# Altium schematic symbol library Capacitor - Aluminium.SchLib: 294 symbols (part 1 of 5)
Pins are listed as number, name and electrical type; pins without a type are passive.

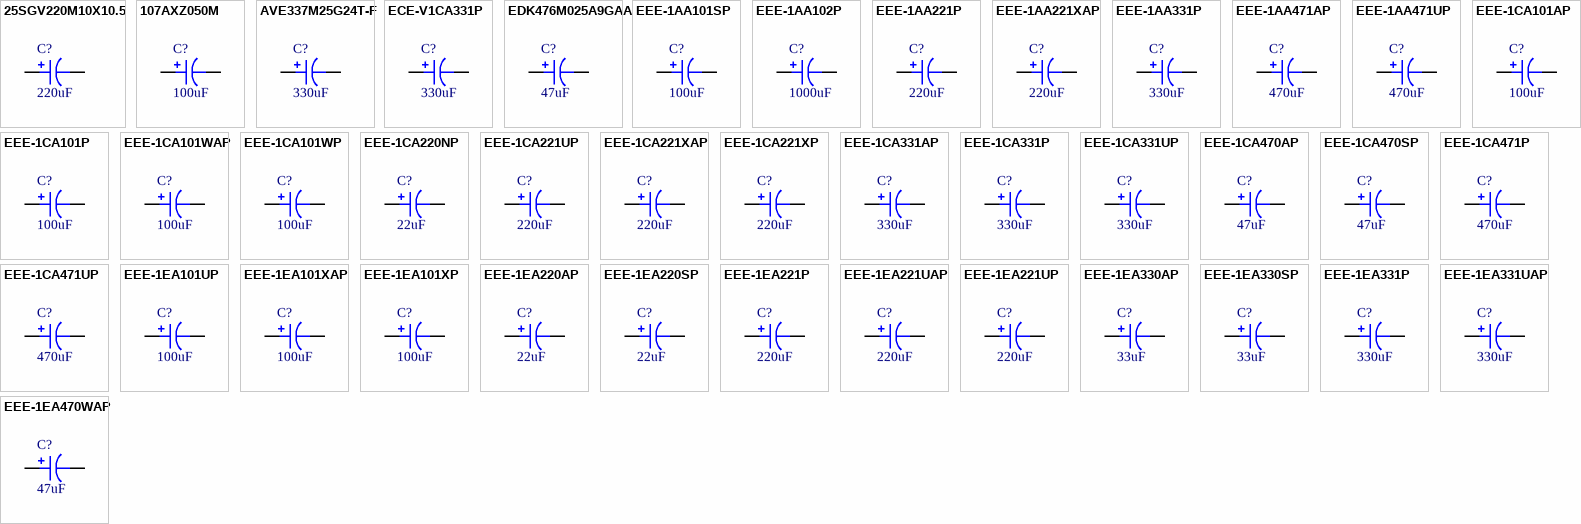
[diagram p0: symbols 25SGV220M10X10.5 to EEE-1EA470WAP]

## 25SGV220M10X10.5
designator C?, comment 220uF
CAP ALUM 220UF 20% 25V SMD; Part Number: 25SGV220M10X10.5; Manufacturer: Rubycon; TemperatureRange: -55C ~ 105C; Type: General Purpose; Ripple Current: 355mA; Lifetime @ Temp: 2000 Hrs @ 105C; Value: 220uF; PartId: 7445; Supplier 1: Digi-Key; Supplier Part Number 1: 1189-2434-2-ND; ComponentLink1Description: Datasheet; ComponentLink1URL: http://www.rubycon.co.jp/en/catalog/e_pdfs/aluminum/e_SGV.pdf; ComponentLink2Description: Digi-Key listing; ComponentLink2URL: http://digikey.com/product-detail/en/25SGV220M10X10.5/1189-2434-2-ND/3568775; Tolerance: 20%; Voltage: 25V; Price: 0.4518; Device Package: Radial, Can - SMD; Impedance: -
footprint CAP ALUM 10.3MM
pins: 1, 2

## 107AXZ050M
designator C?, comment 100uF
SMD E-CAP LOW Z; Part Number: 107AXZ050M; Manufacturer: Illinois Capacitor; TemperatureRange: -55C ~ 105C; Tolerance: 20%; Voltage: 50V; Type: General Purpose; Ripple Current: 300mA; Lifetime @ Temp: 2000 Hrs @ 105C; Value: 100uF; PartId: 7379; Supplier 1: Digi-Key; Supplier Part Number 1: 1572-1038-2-ND; ComponentLink1Description: Datasheet; ComponentLink1URL: http://www.illinoiscapacitor.com/pdf/seriesDocuments/AXZ%20series.pdf; ComponentLink2Description: Digi-Key listing; ComponentLink2URL: http://digikey.com/product-detail/en/107AXZ050M/1572-1038-2-ND/5642283; Price: 0.5215; Device Package: Radial, Can - SMD; Impedance: -
footprint CAP ALUM 8.3MM
pins: 1, 2

## AVE337M25G24T-F
designator C?, comment 330uF
CAP ALUM 330UF 20% 25V SMD; Part Number: AVE337M25G24T-F; Manufacturer: Cornell Dubilier Electronics (CDE); TemperatureRange: -40C ~ 85C; Type: General Purpose; Ripple Current: 458mA; Lifetime @ Temp: 2000 Hrs @ 85C; Value: 330uF; PartId: 7428; Supplier 1: Digi-Key; Supplier Part Number 1: 338-1808-2-ND; ComponentLink1Description: Datasheet; ComponentLink1URL: http://www.cde.com/resources/catalogs/AVE.pdf; ComponentLink2Description: Digi-Key listing; ComponentLink2URL: http://digikey.com/product-detail/en/AVE337M25G24T-F/338-1808-2-ND/2096276; Tolerance: 20%; Voltage: 25V; Price: 0.3706; Device Package: Radial, Can - SMD; Impedance: -
footprint CAP ALUM 10.3MM
pins: 1, 2

## ECE-V1CA331P
designator C?, comment 330uF
CAP ALUM 330UF 20% 16V SMD; Part Number: ECE-V1CA331P; Manufacturer: Panasonic Electronic Components; TemperatureRange: -40C ~ 85C; Type: General Purpose; Ripple Current: 380mA; Lifetime @ Temp: 2000 Hrs @ 85C; Value: 330uF; PartId: 7395; Supplier 1: Digi-Key; Supplier Part Number 1: PCE2045TR-ND; ComponentLink1Description: Datasheet; ComponentLink1URL: http://www.panasonic.com/industrial/components/pdf/PIC_VS_SERIES.pdf; ComponentLink2Description: Digi-Key listing; ComponentLink2URL: http://digikey.com/product-detail/en/ECE-V1CA331P/PCE2045TR-ND/204194; Tolerance: 20%; Voltage: 16V; Price: 0.3055; Device Package: Radial, Can - SMD; Impedance: -
footprint CAP ALUM 10.3MM
pins: 1, 2

## EDK476M025A9GAA
designator C?, comment 47uF
CAP ALUM 47UF 20% 25V SMD; Part Number: EDK476M025A9GAA; Manufacturer: Kemet; TemperatureRange: -40C ~ 85C; Type: General Purpose; Ripple Current: 70mA; Lifetime @ Temp: 2000 Hrs @ 85C; Value: 47uF; PartId: 7204; Supplier 1: Digi-Key; Supplier Part Number 1: 399-6051-2-ND; ComponentLink1Description: Datasheet; ComponentLink1URL: http://capacitoredge.kemet.com/capedge2/DataSheet?pn=EDK476M025A9GAA; ComponentLink2Description: Digi-Key listing; ComponentLink2URL: http://digikey.com/product-detail/en/EDK476M025A9GAA/399-6051-2-ND/2712593; Tolerance: 20%; Voltage: 25V; Price: 0.119; Device Package: Radial, Can - SMD; Impedance: -
footprint CAP ALUM 6.6MM
pins: 1, 2

## EEE-1AA101SP
designator C?, comment 100uF
CAP ALUM 100UF 20% 10V SMD; Part Number: EEE-1AA101SP; Manufacturer: Panasonic Electronic Components; TemperatureRange: -40C ~ 85C; Type: Automotive; Ripple Current: 70mA; Lifetime @ Temp: 2000 Hrs @ 85C; Value: 100uF; PartId: 7209; Supplier 1: Digi-Key; Supplier Part Number 1: PCE3866TR-ND; ComponentLink1Description: Datasheet; ComponentLink1URL: http://media.digikey.com/pdf/Data%20Sheets/Panasonic%20Electronic%20Components/S_Series_Type_V.pdf; ComponentLink2Description: Digi-Key listing; ComponentLink2URL: http://digikey.com/product-detail/en/EEE-1AA101SP/PCE3866TR-ND/766033; Tolerance: 20%; Voltage: 10V; Price: 0.1202; Device Package: Radial, Can - SMD; Impedance: -
footprint CAP ALUM 6.6MM
pins: 1, 2

## EEE-1AA102P
designator C?, comment 1000uF
CAP ALUM 1000UF 20% 10V SMD; Part Number: EEE-1AA102P; Manufacturer: Panasonic Electronic Components; TemperatureRange: -40C ~ 85C; Type: Automotive; Ripple Current: 580mA; Lifetime @ Temp: 2000 Hrs @ 85C; Value: 1000uF; PartId: 7397; Supplier 1: Digi-Key; Supplier Part Number 1: PCE3868TR-ND; ComponentLink1Description: Datasheet; ComponentLink1URL: http://media.digikey.com/pdf/Data%20Sheets/Panasonic%20Electronic%20Components/S_Series_Type_V.pdf; ComponentLink2Description: Digi-Key listing; ComponentLink2URL: http://digikey.com/product-detail/en/EEE-1AA102P/PCE3868TR-ND/766035; Tolerance: 20%; Voltage: 10V; Price: 0.3144; Device Package: Radial, Can - SMD; Impedance: -
footprint CAP ALUM 10.3MM
pins: 1, 2

## EEE-1AA221P
designator C?, comment 220uF
CAP ALUM 220UF 20% 10V SMD; Part Number: EEE-1AA221P; Manufacturer: Panasonic Electronic Components; TemperatureRange: -40C ~ 85C; Type: Automotive; Ripple Current: 250mA; Lifetime @ Temp: 2000 Hrs @ 85C; Value: 220uF; PartId: 7311; Supplier 1: Digi-Key; Supplier Part Number 1: PCE3870TR-ND; ComponentLink1Description: Datasheet; ComponentLink1URL: http://media.digikey.com/pdf/Data%20Sheets/Panasonic%20Electronic%20Components/S_Series_Type_V.pdf; ComponentLink2Description: Digi-Key listing; ComponentLink2URL: http://digikey.com/product-detail/en/EEE-1AA221P/PCE3870TR-ND/766037; Tolerance: 20%; Voltage: 10V; Price: 0.1761; Device Package: Radial, Can - SMD; Impedance: -
footprint CAP ALUM 8.3MM
pins: 1, 2

## EEE-1AA221XAP
designator C?, comment 220uF
CAP ALUM 220UF 20% 10V SMD; Part Number: EEE-1AA221XAP; Manufacturer: Panasonic Electronic Components; TemperatureRange: -40C ~ 85C; Type: High Temperature Reflow; Ripple Current: 173mA; Lifetime @ Temp: 2000 Hrs @ 85C; Value: 220uF; PartId: 7254; Supplier 1: Digi-Key; Supplier Part Number 1: PCE4570TR-ND; ComponentLink1Description: Datasheet; ComponentLink1URL: http://media.digikey.com/pdf/Data%20Sheets/Panasonic%20Electronic%20Components/S_Series_Type_V.pdf; ComponentLink2Description: Digi-Key listing; ComponentLink2URL: http://digikey.com/product-detail/en/EEE-1AA221XAP/PCE4570TR-ND/1717736; Tolerance: 20%; Voltage: 10V; Price: 0.1968; Device Package: Radial, Can - SMD; Impedance: -
footprint CAP ALUM 6.6MM
pins: 1, 2

## EEE-1AA331P
designator C?, comment 330uF
CAP ALUM 330UF 20% 10V SMD; Part Number: EEE-1AA331P; Manufacturer: Panasonic Electronic Components; TemperatureRange: -40C ~ 85C; Type: Automotive; Ripple Current: 390mA; Lifetime @ Temp: 2000 Hrs @ 85C; Value: 330uF; PartId: 7341; Supplier 1: Digi-Key; Supplier Part Number 1: PCE3874TR-ND; ComponentLink1Description: Datasheet; ComponentLink1URL: http://media.digikey.com/pdf/Data%20Sheets/Panasonic%20Electronic%20Components/S_Series_Type_V.pdf; ComponentLink2Description: Digi-Key listing; ComponentLink2URL: http://digikey.com/product-detail/en/EEE-1AA331P/PCE3874TR-ND/766041; Tolerance: 20%; Voltage: 10V; Price: 0.2736; Device Package: Radial, Can - SMD; Impedance: -
footprint CAP ALUM 8.3MM
pins: 1, 2

## EEE-1AA471AP
designator C?, comment 470uF
CAP ALUM 470UF 20% 10V SMD; Part Number: EEE-1AA471AP; Manufacturer: Panasonic Electronic Components; TemperatureRange: -40C ~ 85C; Type: High Temperature Reflow; Ripple Current: 400mA; Lifetime @ Temp: 2000 Hrs @ 85C; Value: 470uF; PartId: 7425; Supplier 1: Digi-Key; Supplier Part Number 1: PCE4575TR-ND; ComponentLink1Description: Datasheet; ComponentLink1URL: http://media.digikey.com/pdf/Data%20Sheets/Panasonic%20Electronic%20Components/S_Series_Type_V.pdf; ComponentLink2Description: Digi-Key listing; ComponentLink2URL: http://digikey.com/product-detail/en/EEE-1AA471AP/PCE4575TR-ND/1717741; Tolerance: 20%; Voltage: 10V; Price: 0.3646; Device Package: Radial, Can - SMD; Impedance: -
footprint CAP ALUM 10.3MM
pins: 1, 2

## EEE-1AA471UP
designator C?, comment 470uF
CAP ALUM 470UF 20% 10V SMD; Part Number: EEE-1AA471UP; Manufacturer: Panasonic Electronic Components; TemperatureRange: -40C ~ 85C; Type: Automotive; Ripple Current: 390mA; Lifetime @ Temp: 2000 Hrs @ 85C; Value: 470uF; PartId: 7337; Supplier 1: Digi-Key; Supplier Part Number 1: PCE3877TR-ND; ComponentLink1Description: Datasheet; ComponentLink1URL: http://media.digikey.com/pdf/Data%20Sheets/Panasonic%20Electronic%20Components/S_Series_Type_V.pdf; ComponentLink2Description: Digi-Key listing; ComponentLink2URL: http://digikey.com/product-detail/en/EEE-1AA471UP/PCE3877TR-ND/766044; Tolerance: 20%; Voltage: 10V; Price: 0.2682; Device Package: Radial, Can - SMD; Impedance: -
footprint CAP ALUM 8.3MM
pins: 1, 2

## EEE-1CA101AP
designator C?, comment 100uF
CAP ALUM 100UF 20% 16V SMD; Part Number: EEE-1CA101AP; Manufacturer: Panasonic Electronic Components; TemperatureRange: -40C ~ 85C; Type: High Temperature Reflow; Ripple Current: 200mA; Lifetime @ Temp: 2000 Hrs @ 85C; Value: 100uF; PartId: 7320; Supplier 1: Digi-Key; Supplier Part Number 1: PCE4578TR-ND; ComponentLink1Description: Datasheet; ComponentLink1URL: http://media.digikey.com/pdf/Data%20Sheets/Panasonic%20Electronic%20Components/S_Series_Type_V.pdf; ComponentLink2Description: Digi-Key listing; ComponentLink2URL: http://digikey.com/product-detail/en/EEE-1CA101AP/PCE4578TR-ND/1717744; Tolerance: 20%; Voltage: 16V; Price: 0.2002; Device Package: Radial, Can - SMD; Impedance: -
footprint CAP ALUM 8.3MM
pins: 1, 2

## EEE-1CA101P
designator C?, comment 100uF
CAP ALUM 100UF 20% 16V SMD; Part Number: EEE-1CA101P; Manufacturer: Panasonic Electronic Components; TemperatureRange: -40C ~ 85C; Type: Automotive; Ripple Current: 200mA; Lifetime @ Temp: 2000 Hrs @ 85C; Value: 100uF; PartId: 7310; Supplier 1: Digi-Key; Supplier Part Number 1: PCE3879TR-ND; ComponentLink1Description: Datasheet; ComponentLink1URL: http://media.digikey.com/pdf/Data%20Sheets/Panasonic%20Electronic%20Components/S_Series_Type_V.pdf; ComponentLink2Description: Digi-Key listing; ComponentLink2URL: http://digikey.com/product-detail/en/EEE-1CA101P/PCE3879TR-ND/766046; Tolerance: 20%; Voltage: 16V; Price: 0.1761; Device Package: Radial, Can - SMD; Impedance: -
footprint CAP ALUM 8.3MM
pins: 1, 2

## EEE-1CA101WAP
designator C?, comment 100uF
CAP ALUM 100UF 20% 16V SMD; Part Number: EEE-1CA101WAP; Manufacturer: Panasonic Electronic Components; TemperatureRange: -40C ~ 85C; Type: High Temperature Reflow; Ripple Current: 70mA; Lifetime @ Temp: 1000 Hrs @ 85C; Value: 100uF; PartId: 7232; Supplier 1: Digi-Key; Supplier Part Number 1: PCE4579TR-ND; ComponentLink1Description: Datasheet; ComponentLink1URL: http://media.digikey.com/pdf/Data%20Sheets/Panasonic%20Electronic%20Components/S_Series_Type_V.pdf; ComponentLink2Description: Digi-Key listing; ComponentLink2URL: http://digikey.com/product-detail/en/EEE-1CA101WAP/PCE4579TR-ND/1717745; Tolerance: 20%; Voltage: 16V; Price: 0.1613; Device Package: Radial, Can - SMD; Impedance: -
footprint CAP ALUM 6.6MM
pins: 1, 2

## EEE-1CA101WP
designator C?, comment 100uF
CAP ALUM 100UF 20% 16V SMD; Part Number: EEE-1CA101WP; Manufacturer: Panasonic Electronic Components; TemperatureRange: -40C ~ 85C; Type: Automotive; Ripple Current: 70mA; Lifetime @ Temp: 1000 Hrs @ 85C; Value: 100uF; PartId: 7203; Supplier 1: Digi-Key; Supplier Part Number 1: PCE3880TR-ND; ComponentLink1Description: Datasheet; ComponentLink1URL: http://media.digikey.com/pdf/Data%20Sheets/Panasonic%20Electronic%20Components/S_Series_Type_V.pdf; ComponentLink2Description: Digi-Key listing; ComponentLink2URL: http://digikey.com/product-detail/en/EEE-1CA101WP/PCE3880TR-ND/766047; Tolerance: 20%; Voltage: 16V; Price: 0.1188; Device Package: Radial, Can - SMD; Impedance: -
footprint CAP ALUM 6.6MM
pins: 1, 2

## EEE-1CA220NP
designator C?, comment 22uF
CAP ALUM 22UF 20% 16V SMD; Part Number: EEE-1CA220NP; Manufacturer: Panasonic Electronic Components; TemperatureRange: -40C ~ 85C; Type: Automotive; Ripple Current: 39mA; Lifetime @ Temp: 2000 Hrs @ 85C; Value: 22uF; PartId: 7252; Supplier 1: Digi-Key; Supplier Part Number 1: PCE4306TR-ND; ComponentLink1Description: Datasheet; ComponentLink1URL: http://media.digikey.com/pdf/Data%20Sheets/Panasonic%20Electronic%20Components/S_Series_Type_V.pdf; ComponentLink2Description: Digi-Key listing; ComponentLink2URL: http://digikey.com/product-detail/en/EEE-1CA220NP/PCE4306TR-ND/863578; Tolerance: 20%; Voltage: 16V; Price: 0.185; Device Package: Radial, Can - SMD; Impedance: -
footprint CAP ALUM 6.6MM
pins: 1, 2

## EEE-1CA221UP
designator C?, comment 220uF
CAP ALUM 220UF 20% 16V SMD; Part Number: EEE-1CA221UP; Manufacturer: Panasonic Electronic Components; TemperatureRange: -40C ~ 85C; Type: Automotive; Lifetime @ Temp: 2000 Hrs @ 85C; Value: 220uF; PartId: 7312; Supplier 1: Digi-Key; Supplier Part Number 1: PCE3884TR-ND; ComponentLink1Description: Datasheet; ComponentLink1URL: http://media.digikey.com/pdf/Data%20Sheets/Panasonic%20Electronic%20Components/S_Series_Type_V.pdf; ComponentLink2Description: Digi-Key listing; ComponentLink2URL: http://digikey.com/product-detail/en/EEE-1CA221UP/PCE3884TR-ND/766051; Tolerance: 20%; Voltage: 16V; Price: 0.1761; Device Package: Radial, Can - SMD; Ripple Current: -; Impedance: -
footprint CAP ALUM 8.3MM
pins: 1, 2

## EEE-1CA221XAP
designator C?, comment 220uF
CAP ALUM 220UF 20% 16V SMD; Part Number: EEE-1CA221XAP; Manufacturer: Panasonic Electronic Components; TemperatureRange: -40C ~ 85C; Type: High Temperature Reflow; Ripple Current: 162mA; Lifetime @ Temp: 2000 Hrs @ 85C; Value: 220uF; PartId: 7253; Supplier 1: Digi-Key; Supplier Part Number 1: PCE4583TR-ND; ComponentLink1Description: Datasheet; ComponentLink1URL: http://media.digikey.com/pdf/Data%20Sheets/Panasonic%20Electronic%20Components/S_Series_Type_V.pdf; ComponentLink2Description: Digi-Key listing; ComponentLink2URL: http://digikey.com/product-detail/en/EEE-1CA221XAP/PCE4583TR-ND/1717749; Tolerance: 20%; Voltage: 16V; Price: 0.1968; Device Package: Radial, Can - SMD; Impedance: -
footprint CAP ALUM 6.6MM
pins: 1, 2

## EEE-1CA221XP
designator C?, comment 220uF
CAP ALUM 220UF 20% 16V SMD; Part Number: EEE-1CA221XP; Manufacturer: Panasonic Electronic Components; TemperatureRange: -40C ~ 85C; Type: Automotive; Ripple Current: 162mA; Lifetime @ Temp: 2000 Hrs @ 85C; Value: 220uF; PartId: 7248; Supplier 1: Digi-Key; Supplier Part Number 1: PCE3885TR-ND; ComponentLink1Description: Datasheet; ComponentLink1URL: http://media.digikey.com/pdf/Data%20Sheets/Panasonic%20Electronic%20Components/S_Series_Type_V.pdf; ComponentLink2Description: Digi-Key listing; ComponentLink2URL: http://digikey.com/product-detail/en/EEE-1CA221XP/PCE3885TR-ND/766052; Tolerance: 20%; Voltage: 16V; Price: 0.1758; Device Package: Radial, Can - SMD; Impedance: -
footprint CAP ALUM 6.6MM
pins: 1, 2

## EEE-1CA331AP
designator C?, comment 330uF
CAP ALUM 330UF 20% 16V SMD; Part Number: EEE-1CA331AP; Manufacturer: Panasonic Electronic Components; TemperatureRange: -40C ~ 85C; Type: High Temperature Reflow; Ripple Current: 380mA; Lifetime @ Temp: 2000 Hrs @ 85C; Value: 330uF; PartId: 7421; Supplier 1: Digi-Key; Supplier Part Number 1: PCE4585TR-ND; ComponentLink1Description: Datasheet; ComponentLink1URL: http://media.digikey.com/pdf/Data%20Sheets/Panasonic%20Electronic%20Components/S_Series_Type_V.pdf; ComponentLink2Description: Digi-Key listing; ComponentLink2URL: http://digikey.com/product-detail/en/EEE-1CA331AP/PCE4585TR-ND/1717751; Tolerance: 20%; Voltage: 16V; Price: 0.3574; Device Package: Radial, Can - SMD; Impedance: -
footprint CAP ALUM 10.3MM
pins: 1, 2

## EEE-1CA331P
designator C?, comment 330uF
CAP ALUM 330UF 20% 16V SMD; Part Number: EEE-1CA331P; Manufacturer: Panasonic Electronic Components; TemperatureRange: -40C ~ 85C; Type: Automotive; Ripple Current: 380mA; Lifetime @ Temp: 2000 Hrs @ 85C; Value: 330uF; PartId: 7404; Supplier 1: Digi-Key; Supplier Part Number 1: PCE3887TR-ND; ComponentLink1Description: Datasheet; ComponentLink1URL: http://media.digikey.com/pdf/Data%20Sheets/Panasonic%20Electronic%20Components/S_Series_Type_V.pdf; ComponentLink2Description: Digi-Key listing; ComponentLink2URL: http://digikey.com/product-detail/en/EEE-1CA331P/PCE3887TR-ND/766054; Tolerance: 20%; Voltage: 16V; Price: 0.3207; Device Package: Radial, Can - SMD; Impedance: -
footprint CAP ALUM 10.3MM
pins: 1, 2

## EEE-1CA331UP
designator C?, comment 330uF
CAP ALUM 330UF 20% 16V SMD; Part Number: EEE-1CA331UP; Manufacturer: Panasonic Electronic Components; TemperatureRange: -40C ~ 85C; Type: Automotive; Ripple Current: 320mA; Lifetime @ Temp: 2000 Hrs @ 85C; Value: 330uF; PartId: 7338; Supplier 1: Digi-Key; Supplier Part Number 1: PCE3888TR-ND; ComponentLink1Description: Datasheet; ComponentLink1URL: http://media.digikey.com/pdf/Data%20Sheets/Panasonic%20Electronic%20Components/S_Series_Type_V.pdf; ComponentLink2Description: Digi-Key listing; ComponentLink2URL: http://digikey.com/product-detail/en/EEE-1CA331UP/PCE3888TR-ND/766055; Tolerance: 20%; Voltage: 16V; Price: 0.2682; Device Package: Radial, Can - SMD; Impedance: -
footprint CAP ALUM 8.3MM
pins: 1, 2

## EEE-1CA470AP
designator C?, comment 47uF
CAP ALUM 47UF 20% 16V SMD; Part Number: EEE-1CA470AP; Manufacturer: Panasonic Electronic Components; TemperatureRange: -40C ~ 85C; Type: High Temperature Reflow; Ripple Current: 70mA; Lifetime @ Temp: 2000 Hrs @ 85C; Value: 47uF; PartId: 7217; Supplier 1: Digi-Key; Supplier Part Number 1: PCE4587TR-ND; ComponentLink1Description: Datasheet; ComponentLink1URL: http://media.digikey.com/pdf/Data%20Sheets/Panasonic%20Electronic%20Components/S_Series_Type_V.pdf; ComponentLink2Description: Digi-Key listing; ComponentLink2URL: http://digikey.com/product-detail/en/EEE-1CA470AP/PCE4587TR-ND/1717753; Tolerance: 20%; Voltage: 16V; Price: 0.1368; Device Package: Radial, Can - SMD; Impedance: -
footprint CAP ALUM 6.6MM
pins: 1, 2

## EEE-1CA470SP
designator C?, comment 47uF
CAP ALUM 47UF 20% 16V SMD; Part Number: EEE-1CA470SP; Manufacturer: Panasonic Electronic Components; TemperatureRange: -40C ~ 85C; Type: Automotive; Ripple Current: 70mA; Lifetime @ Temp: 2000 Hrs @ 85C; Value: 47uF; PartId: 7199; Supplier 1: Digi-Key; Supplier Part Number 1: PCE3889TR-ND; ComponentLink1Description: Datasheet; ComponentLink1URL: http://media.digikey.com/pdf/Data%20Sheets/Panasonic%20Electronic%20Components/S_Series_Type_V.pdf; ComponentLink2Description: Digi-Key listing; ComponentLink2URL: http://digikey.com/product-detail/en/EEE-1CA470SP/PCE3889TR-ND/766056; Tolerance: 20%; Voltage: 16V; Price: 0.1112; Device Package: Radial, Can - SMD; Impedance: -
footprint CAP ALUM 6.6MM
pins: 1, 2

## EEE-1CA471P
designator C?, comment 470uF
CAP ALUM 470UF 20% 16V SMD; Part Number: EEE-1CA471P; Manufacturer: Panasonic Electronic Components; TemperatureRange: -40C ~ 85C; Type: Automotive; Ripple Current: 420mA; Lifetime @ Temp: 2000 Hrs @ 85C; Value: 470uF; PartId: 7399; Supplier 1: Digi-Key; Supplier Part Number 1: PCE3891TR-ND; ComponentLink1Description: Datasheet; ComponentLink1URL: http://media.digikey.com/pdf/Data%20Sheets/Panasonic%20Electronic%20Components/S_Series_Type_V.pdf; ComponentLink2Description: Digi-Key listing; ComponentLink2URL: http://digikey.com/product-detail/en/EEE-1CA471P/PCE3891TR-ND/766058; Tolerance: 20%; Voltage: 16V; Price: 0.3144; Device Package: Radial, Can - SMD; Impedance: -
footprint CAP ALUM 10.3MM
pins: 1, 2

## EEE-1CA471UP
designator C?, comment 470uF
CAP ALUM 470UF 20% 16V SMD; Part Number: EEE-1CA471UP; Manufacturer: Panasonic Electronic Components; TemperatureRange: -40C ~ 85C; Type: Automotive; Ripple Current: 350mA; Lifetime @ Temp: 2000 Hrs @ 85C; Value: 470uF; PartId: 7344; Supplier 1: Digi-Key; Supplier Part Number 1: PCE3892TR-ND; ComponentLink1Description: Datasheet; ComponentLink1URL: http://media.digikey.com/pdf/Data%20Sheets/Panasonic%20Electronic%20Components/S_Series_Type_V.pdf; ComponentLink2Description: Digi-Key listing; ComponentLink2URL: http://digikey.com/product-detail/en/EEE-1CA471UP/PCE3892TR-ND/766059; Tolerance: 20%; Voltage: 16V; Price: 0.2912; Device Package: Radial, Can - SMD; Impedance: -
footprint CAP ALUM 8.3MM
pins: 1, 2

## EEE-1EA101UP
designator C?, comment 100uF
CAP ALUM 100UF 20% 25V SMD; Part Number: EEE-1EA101UP; Manufacturer: Panasonic Electronic Components; TemperatureRange: -40C ~ 85C; Type: Automotive; Ripple Current: 91mA; Lifetime @ Temp: 2000 Hrs @ 85C; Value: 100uF; PartId: 7309; Supplier 1: Digi-Key; Supplier Part Number 1: PCE3897TR-ND; ComponentLink1Description: Datasheet; ComponentLink1URL: http://media.digikey.com/pdf/Data%20Sheets/Panasonic%20Electronic%20Components/S_Series_Type_V.pdf; ComponentLink2Description: Digi-Key listing; ComponentLink2URL: http://digikey.com/product-detail/en/EEE-1EA101UP/PCE3897TR-ND/766064; Tolerance: 20%; Voltage: 25V; Price: 0.1761; Device Package: Radial, Can - SMD; Impedance: -
footprint CAP ALUM 8.3MM
pins: 1, 2

## EEE-1EA101XAP
designator C?, comment 100uF
CAP ALUM 100UF 20% 25V SMD; Part Number: EEE-1EA101XAP; Manufacturer: Panasonic Electronic Components; TemperatureRange: -40C ~ 85C; Type: High Temperature Reflow; Ripple Current: 143mA; Lifetime @ Temp: 2000 Hrs @ 85C; Value: 100uF; PartId: 7260; Supplier 1: Digi-Key; Supplier Part Number 1: PCE4595TR-ND; ComponentLink1Description: Datasheet; ComponentLink1URL: http://media.digikey.com/pdf/Data%20Sheets/Panasonic%20Electronic%20Components/S_Series_Type_V.pdf; ComponentLink2Description: Digi-Key listing; ComponentLink2URL: http://digikey.com/product-detail/en/EEE-1EA101XAP/PCE4595TR-ND/1717761; Tolerance: 20%; Voltage: 25V; Price: 0.2007; Device Package: Radial, Can - SMD; Impedance: -
footprint CAP ALUM 6.6MM
pins: 1, 2

## EEE-1EA101XP
designator C?, comment 100uF
CAP ALUM 100UF 20% 25V SMD; Part Number: EEE-1EA101XP; Manufacturer: Panasonic Electronic Components; TemperatureRange: -40C ~ 85C; Type: Automotive; Ripple Current: 143mA; Lifetime @ Temp: 2000 Hrs @ 85C; Value: 100uF; PartId: 7246; Supplier 1: Digi-Key; Supplier Part Number 1: PCE3898TR-ND; ComponentLink1Description: Datasheet; ComponentLink1URL: http://media.digikey.com/pdf/Data%20Sheets/Panasonic%20Electronic%20Components/S_Series_Type_V.pdf; ComponentLink2Description: Digi-Key listing; ComponentLink2URL: http://digikey.com/product-detail/en/EEE-1EA101XP/PCE3898TR-ND/766065; Tolerance: 20%; Voltage: 25V; Price: 0.1724; Device Package: Radial, Can - SMD; Impedance: -
footprint CAP ALUM 6.6MM
pins: 1, 2

## EEE-1EA220AP
designator C?, comment 22uF
CAP ALUM 22UF 20% 25V SMD; Part Number: EEE-1EA220AP; Manufacturer: Panasonic Electronic Components; TemperatureRange: -40C ~ 85C; Type: High Temperature Reflow; Ripple Current: 55mA; Lifetime @ Temp: 2000 Hrs @ 85C; Value: 22uF; PartId: 7220; Supplier 1: Digi-Key; Supplier Part Number 1: PCE4596TR-ND; ComponentLink1Description: Datasheet; ComponentLink1URL: http://media.digikey.com/pdf/Data%20Sheets/Panasonic%20Electronic%20Components/S_Series_Type_V.pdf; ComponentLink2Description: Digi-Key listing; ComponentLink2URL: http://digikey.com/product-detail/en/EEE-1EA220AP/PCE4596TR-ND/1717762; Tolerance: 20%; Voltage: 25V; Price: 0.1368; Device Package: Radial, Can - SMD; Impedance: -
footprint CAP ALUM 6.6MM
pins: 1, 2

## EEE-1EA220SP
designator C?, comment 22uF
CAP ALUM 22UF 20% 25V SMD; Part Number: EEE-1EA220SP; Manufacturer: Panasonic Electronic Components; TemperatureRange: -40C ~ 85C; Type: Automotive; Ripple Current: 55mA; Lifetime @ Temp: 2000 Hrs @ 85C; Value: 22uF; PartId: 7208; Supplier 1: Digi-Key; Supplier Part Number 1: PCE3899TR-ND; ComponentLink1Description: Datasheet; ComponentLink1URL: http://media.digikey.com/pdf/Data%20Sheets/Panasonic%20Electronic%20Components/S_Series_Type_V.pdf; ComponentLink2Description: Digi-Key listing; ComponentLink2URL: http://digikey.com/product-detail/en/EEE-1EA220SP/PCE3899TR-ND/766066; Tolerance: 20%; Voltage: 25V; Price: 0.1202; Device Package: Radial, Can - SMD; Impedance: -
footprint CAP ALUM 6.6MM
pins: 1, 2

## EEE-1EA221P
designator C?, comment 220uF
CAP ALUM 220UF 20% 25V SMD; Part Number: EEE-1EA221P; Manufacturer: Panasonic Electronic Components; TemperatureRange: -40C ~ 85C; Type: Automotive; Ripple Current: 310mA; Lifetime @ Temp: 2000 Hrs @ 85C; Value: 220uF; PartId: 7400; Supplier 1: Digi-Key; Supplier Part Number 1: PCE3901TR-ND; ComponentLink1Description: Datasheet; ComponentLink1URL: http://media.digikey.com/pdf/Data%20Sheets/Panasonic%20Electronic%20Components/S_Series_Type_V.pdf; ComponentLink2Description: Digi-Key listing; ComponentLink2URL: http://digikey.com/product-detail/en/EEE-1EA221P/PCE3901TR-ND/766068; Tolerance: 20%; Voltage: 25V; Price: 0.3144; Device Package: Radial, Can - SMD; Impedance: -
footprint CAP ALUM 10.3MM
pins: 1, 2

## EEE-1EA221UAP
designator C?, comment 220uF
CAP ALUM 220UF 20% 25V SMD; Part Number: EEE-1EA221UAP; Manufacturer: Panasonic Electronic Components; TemperatureRange: -40C ~ 85C; Type: High Temperature Reflow; Ripple Current: 230mA; Lifetime @ Temp: 1000 Hrs @ 85C; Value: 220uF; PartId: 7353; Supplier 1: Digi-Key; Supplier Part Number 1: PCE4599TR-ND; ComponentLink1Description: Datasheet; ComponentLink1URL: http://media.digikey.com/pdf/Data%20Sheets/Panasonic%20Electronic%20Components/S_Series_Type_V.pdf; ComponentLink2Description: Digi-Key listing; ComponentLink2URL: http://digikey.com/product-detail/en/EEE-1EA221UAP/PCE4599TR-ND/1717765; Tolerance: 20%; Voltage: 25V; Price: 0.3313; Device Package: Radial, Can - SMD; Impedance: -
footprint CAP ALUM 8.3MM
pins: 1, 2

## EEE-1EA221UP
designator C?, comment 220uF
CAP ALUM 220UF 20% 25V SMD; Part Number: EEE-1EA221UP; Manufacturer: Panasonic Electronic Components; TemperatureRange: -40C ~ 85C; Type: Automotive; Ripple Current: 230mA; Lifetime @ Temp: 2000 Hrs @ 85C; Value: 220uF; PartId: 7345; Supplier 1: Digi-Key; Supplier Part Number 1: PCE3902TR-ND; ComponentLink1Description: Datasheet; ComponentLink1URL: http://media.digikey.com/pdf/Data%20Sheets/Panasonic%20Electronic%20Components/S_Series_Type_V.pdf; ComponentLink2Description: Digi-Key listing; ComponentLink2URL: http://digikey.com/product-detail/en/EEE-1EA221UP/PCE3902TR-ND/766069; Tolerance: 20%; Voltage: 25V; Price: 0.2912; Device Package: Radial, Can - SMD; Impedance: -
footprint CAP ALUM 8.3MM
pins: 1, 2

## EEE-1EA330AP
designator C?, comment 33uF
CAP ALUM 33UF 20% 25V SMD; Part Number: EEE-1EA330AP; Manufacturer: Panasonic Electronic Components; TemperatureRange: -40C ~ 85C; Type: High Temperature Reflow; Ripple Current: 65mA; Lifetime @ Temp: 2000 Hrs @ 85C; Value: 33uF; PartId: 7219; Supplier 1: Digi-Key; Supplier Part Number 1: PCE4600TR-ND; ComponentLink1Description: Datasheet; ComponentLink1URL: http://media.digikey.com/pdf/Data%20Sheets/Panasonic%20Electronic%20Components/S_Series_Type_V.pdf; ComponentLink2Description: Digi-Key listing; ComponentLink2URL: http://digikey.com/product-detail/en/EEE-1EA330AP/PCE4600TR-ND/1717766; Tolerance: 20%; Voltage: 25V; Price: 0.1368; Device Package: Radial, Can - SMD; Impedance: -
footprint CAP ALUM 6.6MM
pins: 1, 2

## EEE-1EA330SP
designator C?, comment 33uF
CAP ALUM 33UF 20% 25V SMD; Part Number: EEE-1EA330SP; Manufacturer: Panasonic Electronic Components; TemperatureRange: -40C ~ 85C; Type: Automotive; Ripple Current: 65mA; Lifetime @ Temp: 2000 Hrs @ 85C; Value: 33uF; PartId: 7210; Supplier 1: Digi-Key; Supplier Part Number 1: PCE3903TR-ND; ComponentLink1Description: Datasheet; ComponentLink1URL: http://media.digikey.com/pdf/Data%20Sheets/Panasonic%20Electronic%20Components/S_Series_Type_V.pdf; ComponentLink2Description: Digi-Key listing; ComponentLink2URL: http://digikey.com/product-detail/en/EEE-1EA330SP/PCE3903TR-ND/766070; Tolerance: 20%; Voltage: 25V; Price: 0.1202; Device Package: Radial, Can - SMD; Impedance: -
footprint CAP ALUM 6.6MM
pins: 1, 2

## EEE-1EA331P
designator C?, comment 330uF
CAP ALUM 330UF 20% 25V SMD; Part Number: EEE-1EA331P; Manufacturer: Panasonic Electronic Components; TemperatureRange: -40C ~ 85C; Type: Automotive; Ripple Current: 340mA; Lifetime @ Temp: 2000 Hrs @ 85C; Value: 330uF; PartId: 7403; Supplier 1: Digi-Key; Supplier Part Number 1: PCE3905TR-ND; ComponentLink1Description: Datasheet; ComponentLink1URL: http://media.digikey.com/pdf/Data%20Sheets/Panasonic%20Electronic%20Components/S_Series_Type_V.pdf; ComponentLink2Description: Digi-Key listing; ComponentLink2URL: http://digikey.com/product-detail/en/EEE-1EA331P/PCE3905TR-ND/766072; Tolerance: 20%; Voltage: 25V; Price: 0.3207; Device Package: Radial, Can - SMD; Impedance: -
footprint CAP ALUM 10.3MM
pins: 1, 2

## EEE-1EA331UAP
designator C?, comment 330uF
CAP ALUM 330UF 20% 25V SMD; Part Number: EEE-1EA331UAP; Manufacturer: Panasonic Electronic Components; TemperatureRange: -40C ~ 85C; Type: High Temperature Reflow; Ripple Current: 270mA; Lifetime @ Temp: 1000 Hrs @ 85C; Value: 330uF; PartId: 7355; Supplier 1: Digi-Key; Supplier Part Number 1: PCE4603TR-ND; ComponentLink1Description: Datasheet; ComponentLink1URL: http://media.digikey.com/pdf/Data%20Sheets/Panasonic%20Electronic%20Components/S_Series_Type_V.pdf; ComponentLink2Description: Digi-Key listing; ComponentLink2URL: http://digikey.com/product-detail/en/EEE-1EA331UAP/PCE4603TR-ND/1717769; Tolerance: 20%; Voltage: 25V; Price: 0.338; Device Package: Radial, Can - SMD; Impedance: -
footprint CAP ALUM 8.3MM
pins: 1, 2

## EEE-1EA470WAP
designator C?, comment 47uF
CAP ALUM 47UF 20% 25V SMD; Part Number: EEE-1EA470WAP; Manufacturer: Panasonic Electronic Components; TemperatureRange: -40C ~ 85C; Type: High Temperature Reflow; Ripple Current: 70mA; Lifetime @ Temp: 1000 Hrs @ 85C; Value: 47uF; PartId: 7235; Supplier 1: Digi-Key; Supplier Part Number 1: PCE4604TR-ND; ComponentLink1Description: Datasheet; ComponentLink1URL: http://media.digikey.com/pdf/Data%20Sheets/Panasonic%20Electronic%20Components/S_Series_Type_V.pdf; ComponentLink2Description: Digi-Key listing; ComponentLink2URL: http://digikey.com/product-detail/en/EEE-1EA470WAP/PCE4604TR-ND/1717770; Tolerance: 20%; Voltage: 25V; Price: 0.1613; Device Package: Radial, Can - SMD; Impedance: -
footprint CAP ALUM 6.6MM
pins: 1, 2

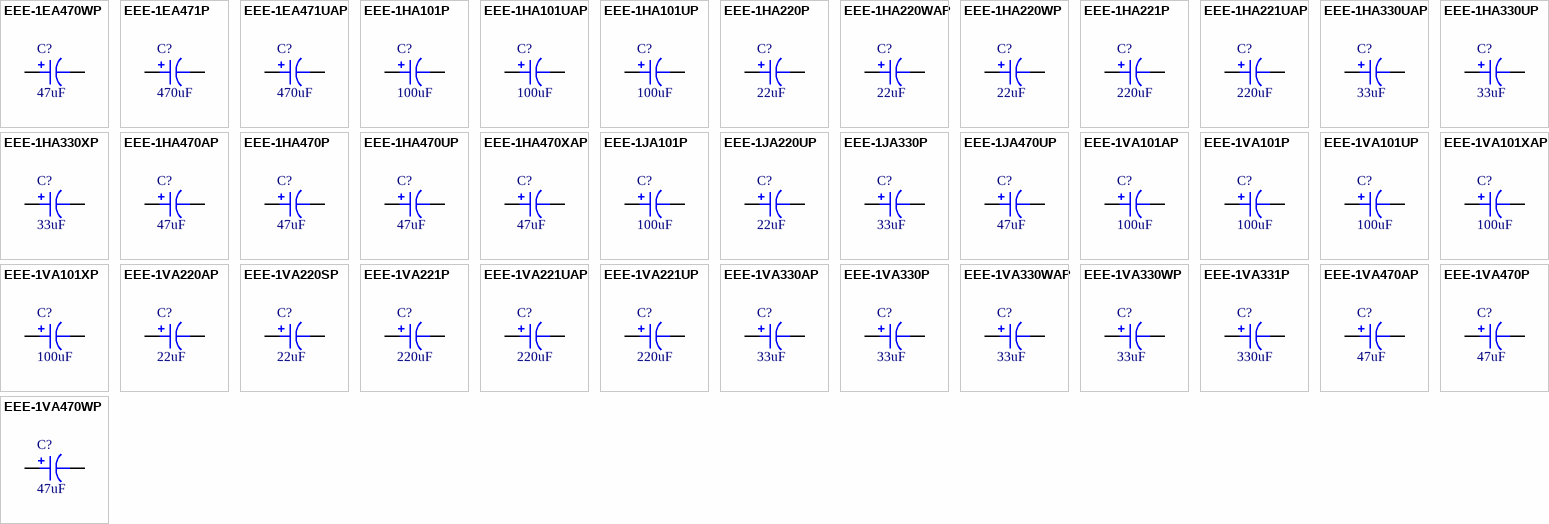
[diagram p1: symbols EEE-1EA470WP to EEE-1VA470WP]

## EEE-1EA470WP
designator C?, comment 47uF
CAP ALUM 47UF 20% 25V SMD; Part Number: EEE-1EA470WP; Manufacturer: Panasonic Electronic Components; TemperatureRange: -40C ~ 85C; Type: Automotive; Ripple Current: 70mA; Lifetime @ Temp: 1000 Hrs @ 85C; Value: 47uF; PartId: 7222; Supplier 1: Digi-Key; Supplier Part Number 1: PCE3908TR-ND; ComponentLink1Description: Datasheet; ComponentLink1URL: http://media.digikey.com/pdf/Data%20Sheets/Panasonic%20Electronic%20Components/S_Series_Type_V.pdf; ComponentLink2Description: Digi-Key listing; ComponentLink2URL: http://digikey.com/product-detail/en/EEE-1EA470WP/PCE3908TR-ND/766075; Tolerance: 20%; Voltage: 25V; Price: 0.1423; Device Package: Radial, Can - SMD; Impedance: -
footprint CAP ALUM 6.6MM
pins: 1, 2

## EEE-1EA471P
designator C?, comment 470uF
CAP ALUM 470UF 20% 25V SMD; Part Number: EEE-1EA471P; Manufacturer: Panasonic Electronic Components; TemperatureRange: -40C ~ 85C; Type: Automotive; Ripple Current: 380mA; Lifetime @ Temp: 2000 Hrs @ 85C; Value: 470uF; PartId: 7417; Supplier 1: Digi-Key; Supplier Part Number 1: PCE3909TR-ND; ComponentLink1Description: Datasheet; ComponentLink1URL: http://media.digikey.com/pdf/Data%20Sheets/Panasonic%20Electronic%20Components/S_Series_Type_V.pdf; ComponentLink2Description: Digi-Key listing; ComponentLink2URL: http://digikey.com/product-detail/en/EEE-1EA471P/PCE3909TR-ND/766076; Tolerance: 20%; Voltage: 25V; Price: 0.3451; Device Package: Radial, Can - SMD; Impedance: -
footprint CAP ALUM 10.3MM
pins: 1, 2

## EEE-1EA471UAP
designator C?, comment 470uF
CAP ALUM 470UF 20% 25V SMD; Part Number: EEE-1EA471UAP; Manufacturer: Panasonic Electronic Components; TemperatureRange: -40C ~ 85C; Type: High Temperature Reflow; Ripple Current: 380mA; Lifetime @ Temp: 1000 Hrs @ 85C; Value: 470uF; PartId: 7429; Supplier 1: Digi-Key; Supplier Part Number 1: PCE4605TR-ND; ComponentLink1Description: Datasheet; ComponentLink1URL: http://media.digikey.com/pdf/Data%20Sheets/Panasonic%20Electronic%20Components/S_Series_Type_V.pdf; ComponentLink2Description: Digi-Key listing; ComponentLink2URL: http://digikey.com/product-detail/en/EEE-1EA471UAP/PCE4605TR-ND/1717771; Tolerance: 20%; Voltage: 25V; Price: 0.3725; Device Package: Radial, Can - SMD; Impedance: -
footprint CAP ALUM 10.3MM
pins: 1, 2

## EEE-1HA101P
designator C?, comment 100uF
CAP ALUM 100UF 20% 50V SMD; Part Number: EEE-1HA101P; Manufacturer: Panasonic Electronic Components; TemperatureRange: -40C ~ 85C; Type: Automotive; Ripple Current: 250mA; Lifetime @ Temp: 2000 Hrs @ 85C; Value: 100uF; PartId: 7398; Supplier 1: Digi-Key; Supplier Part Number 1: PCE3916TR-ND; ComponentLink1Description: Datasheet; ComponentLink1URL: http://media.digikey.com/pdf/Data%20Sheets/Panasonic%20Electronic%20Components/S_Series_Type_V.pdf; ComponentLink2Description: Digi-Key listing; ComponentLink2URL: http://digikey.com/product-detail/en/EEE-1HA101P/PCE3916TR-ND/766083; Tolerance: 20%; Voltage: 50V; Price: 0.3144; Device Package: Radial, Can - SMD; Impedance: -
footprint CAP ALUM 10.3MM
pins: 1, 2

## EEE-1HA101UAP
designator C?, comment 100uF
CAP ALUM 100UF 20% 50V SMD; Part Number: EEE-1HA101UAP; Manufacturer: Panasonic Electronic Components; TemperatureRange: -40C ~ 85C; Type: High Temperature Reflow; Ripple Current: 200mA; Lifetime @ Temp: 1000 Hrs @ 85C; Value: 100uF; PartId: 7352; Supplier 1: Digi-Key; Supplier Part Number 1: PCE4610TR-ND; ComponentLink1Description: Datasheet; ComponentLink1URL: http://media.digikey.com/pdf/Data%20Sheets/Panasonic%20Electronic%20Components/S_Series_Type_V.pdf; ComponentLink2Description: Digi-Key listing; ComponentLink2URL: http://digikey.com/product-detail/en/EEE-1HA101UAP/PCE4610TR-ND/1717776; Tolerance: 20%; Voltage: 50V; Price: 0.3313; Device Package: Radial, Can - SMD; Impedance: -
footprint CAP ALUM 8.3MM
pins: 1, 2

## EEE-1HA101UP
designator C?, comment 100uF
CAP ALUM 100UF 20% 50V SMD; Part Number: EEE-1HA101UP; Manufacturer: Panasonic Electronic Components; TemperatureRange: -40C ~ 85C; Type: Automotive; Ripple Current: 200mA; Lifetime @ Temp: 2000 Hrs @ 85C; Value: 100uF; PartId: 7292; Supplier 1: Digi-Key; Supplier Part Number 1: PCE3917TR-ND; ComponentLink1Description: Datasheet; ComponentLink1URL: http://media.digikey.com/pdf/Data%20Sheets/Panasonic%20Electronic%20Components/S_Series_Type_V.pdf; ComponentLink2Description: Digi-Key listing; ComponentLink2URL: http://digikey.com/product-detail/en/EEE-1HA101UP/PCE3917TR-ND/766084; Tolerance: 20%; Voltage: 50V; Price: 0.2435; Device Package: Radial, Can - SMD; Impedance: -
footprint CAP ALUM 8.3MM
pins: 1, 2

## EEE-1HA220P
designator C?, comment 22uF
CAP ALUM 22UF 20% 50V SMD; Part Number: EEE-1HA220P; Manufacturer: Panasonic Electronic Components; TemperatureRange: -40C ~ 85C; Type: Automotive; Ripple Current: 120mA; Lifetime @ Temp: 2000 Hrs @ 85C; Value: 22uF; PartId: 7314; Supplier 1: Digi-Key; Supplier Part Number 1: PCE3918TR-ND; ComponentLink1Description: Datasheet; ComponentLink1URL: http://media.digikey.com/pdf/Data%20Sheets/Panasonic%20Electronic%20Components/S_Series_Type_V.pdf; ComponentLink2Description: Digi-Key listing; ComponentLink2URL: http://digikey.com/product-detail/en/EEE-1HA220P/PCE3918TR-ND/766085; Tolerance: 20%; Voltage: 50V; Price: 0.1761; Device Package: Radial, Can - SMD; Impedance: -
footprint CAP ALUM 8.3MM
pins: 1, 2

## EEE-1HA220WAP
designator C?, comment 22uF
CAP ALUM 22UF 20% 50V SMD; Part Number: EEE-1HA220WAP; Manufacturer: Panasonic Electronic Components; TemperatureRange: -40C ~ 85C; Type: High Temperature Reflow; Ripple Current: 40mA; Lifetime @ Temp: 1000 Hrs @ 85C; Value: 22uF; PartId: 7233; Supplier 1: Digi-Key; Supplier Part Number 1: PCE4613TR-ND; ComponentLink1Description: Datasheet; ComponentLink1URL: http://media.digikey.com/pdf/Data%20Sheets/Panasonic%20Electronic%20Components/S_Series_Type_V.pdf; ComponentLink2Description: Digi-Key listing; ComponentLink2URL: http://digikey.com/product-detail/en/EEE-1HA220WAP/PCE4613TR-ND/1717779; Tolerance: 20%; Voltage: 50V; Price: 0.1613; Device Package: Radial, Can - SMD; Impedance: -
footprint CAP ALUM 6.6MM
pins: 1, 2

## EEE-1HA220WP
designator C?, comment 22uF
CAP ALUM 22UF 20% 50V SMD; Part Number: EEE-1HA220WP; Manufacturer: Panasonic Electronic Components; TemperatureRange: -40C ~ 85C; Type: Automotive; Ripple Current: 40mA; Lifetime @ Temp: 1000 Hrs @ 85C; Value: 22uF; PartId: 7221; Supplier 1: Digi-Key; Supplier Part Number 1: PCE3920TR-ND; ComponentLink1Description: Datasheet; ComponentLink1URL: http://media.digikey.com/pdf/Data%20Sheets/Panasonic%20Electronic%20Components/S_Series_Type_V.pdf; ComponentLink2Description: Digi-Key listing; ComponentLink2URL: http://digikey.com/product-detail/en/EEE-1HA220WP/PCE3920TR-ND/766087; Tolerance: 20%; Voltage: 50V; Price: 0.1423; Device Package: Radial, Can - SMD; Impedance: -
footprint CAP ALUM 6.6MM
pins: 1, 2

## EEE-1HA221P
designator C?, comment 220uF
CAP ALUM 220UF 20% 50V SMD; Part Number: EEE-1HA221P; Manufacturer: Panasonic Electronic Components; TemperatureRange: -40C ~ 85C; Type: Automotive; Ripple Current: 300mA; Lifetime @ Temp: 2000 Hrs @ 85C; Value: 220uF; PartId: 7419; Supplier 1: Digi-Key; Supplier Part Number 1: PCE3921TR-ND; ComponentLink1Description: Datasheet; ComponentLink1URL: http://media.digikey.com/pdf/Data%20Sheets/Panasonic%20Electronic%20Components/S_Series_Type_V.pdf; ComponentLink2Description: Digi-Key listing; ComponentLink2URL: http://digikey.com/product-detail/en/EEE-1HA221P/PCE3921TR-ND/766088; Tolerance: 20%; Voltage: 50V; Price: 0.3451; Device Package: Radial, Can - SMD; Impedance: -
footprint CAP ALUM 10.3MM
pins: 1, 2

## EEE-1HA221UAP
designator C?, comment 220uF
CAP ALUM 220UF 20% 50V SMD; Part Number: EEE-1HA221UAP; Manufacturer: Panasonic Electronic Components; TemperatureRange: -40C ~ 85C; Type: High Temperature Reflow; Ripple Current: 300mA; Lifetime @ Temp: 1000 Hrs @ 85C; Value: 220uF; PartId: 7431; Supplier 1: Digi-Key; Supplier Part Number 1: PCE4614TR-ND; ComponentLink1Description: Datasheet; ComponentLink1URL: http://media.digikey.com/pdf/Data%20Sheets/Panasonic%20Electronic%20Components/S_Series_Type_V.pdf; ComponentLink2Description: Digi-Key listing; ComponentLink2URL: http://digikey.com/product-detail/en/EEE-1HA221UAP/PCE4614TR-ND/1717780; Tolerance: 20%; Voltage: 50V; Price: 0.38; Device Package: Radial, Can - SMD; Impedance: -
footprint CAP ALUM 10.3MM
pins: 1, 2

## EEE-1HA330UAP
designator C?, comment 33uF
CAP ALUM 33UF 20% 50V SMD; Part Number: EEE-1HA330UAP; Manufacturer: Panasonic Electronic Components; TemperatureRange: -40C ~ 85C; Type: High Temperature Reflow; Ripple Current: 65mA; Lifetime @ Temp: 1000 Hrs @ 85C; Value: 33uF; PartId: 7277; Supplier 1: Digi-Key; Supplier Part Number 1: PCE4617TR-ND; ComponentLink1Description: Datasheet; ComponentLink1URL: http://media.digikey.com/pdf/Data%20Sheets/Panasonic%20Electronic%20Components/S_Series_Type_V.pdf; ComponentLink2Description: Digi-Key listing; ComponentLink2URL: http://digikey.com/product-detail/en/EEE-1HA330UAP/PCE4617TR-ND/1717783; Tolerance: 20%; Voltage: 50V; Price: 0.2002; Device Package: Radial, Can - SMD; Impedance: -
footprint CAP ALUM 8.3MM
pins: 1, 2

## EEE-1HA330UP
designator C?, comment 33uF
CAP ALUM 33UF 20% 50V SMD; Part Number: EEE-1HA330UP; Manufacturer: Panasonic Electronic Components; TemperatureRange: -40C ~ 85C; Type: Automotive; Ripple Current: 65mA; Lifetime @ Temp: 2000 Hrs @ 85C; Value: 33uF; PartId: 7313; Supplier 1: Digi-Key; Supplier Part Number 1: PCE3924TR-ND; ComponentLink1Description: Datasheet; ComponentLink1URL: http://media.digikey.com/pdf/Data%20Sheets/Panasonic%20Electronic%20Components/S_Series_Type_V.pdf; ComponentLink2Description: Digi-Key listing; ComponentLink2URL: http://digikey.com/product-detail/en/EEE-1HA330UP/PCE3924TR-ND/766091; Tolerance: 20%; Voltage: 50V; Price: 0.1761; Device Package: Radial, Can - SMD; Impedance: -
footprint CAP ALUM 8.3MM
pins: 1, 2

## EEE-1HA330XP
designator C?, comment 33uF
CAP ALUM 33UF 20% 50V SMD; Part Number: EEE-1HA330XP; Manufacturer: Panasonic Electronic Components; TemperatureRange: -40C ~ 85C; Type: Automotive; Ripple Current: 85mA; Lifetime @ Temp: 2000 Hrs @ 85C; Value: 33uF; PartId: 7249; Supplier 1: Digi-Key; Supplier Part Number 1: PCE3925TR-ND; ComponentLink1Description: Datasheet; ComponentLink1URL: http://media.digikey.com/pdf/Data%20Sheets/Panasonic%20Electronic%20Components/S_Series_Type_V.pdf; ComponentLink2Description: Digi-Key listing; ComponentLink2URL: http://digikey.com/product-detail/en/EEE-1HA330XP/PCE3925TR-ND/766092; Tolerance: 20%; Voltage: 50V; Price: 0.1758; Device Package: Radial, Can - SMD; Impedance: -
footprint CAP ALUM 6.6MM
pins: 1, 2

## EEE-1HA470AP
designator C?, comment 47uF
CAP ALUM 47UF 20% 50V SMD; Part Number: EEE-1HA470AP; Manufacturer: Panasonic Electronic Components; TemperatureRange: -40C ~ 85C; Type: High Temperature Reflow; Ripple Current: 130mA; Lifetime @ Temp: 2000 Hrs @ 85C; Value: 47uF; PartId: 7424; Supplier 1: Digi-Key; Supplier Part Number 1: PCE4620TR-ND; ComponentLink1Description: Datasheet; ComponentLink1URL: http://media.digikey.com/pdf/Data%20Sheets/Panasonic%20Electronic%20Components/S_Series_Type_V.pdf; ComponentLink2Description: Digi-Key listing; ComponentLink2URL: http://digikey.com/product-detail/en/EEE-1HA470AP/PCE4620TR-ND/1717786; Tolerance: 20%; Voltage: 50V; Price: 0.3646; Device Package: Radial, Can - SMD; Impedance: -
footprint CAP ALUM 10.3MM
pins: 1, 2

## EEE-1HA470P
designator C?, comment 47uF
CAP ALUM 47UF 20% 50V SMD; Part Number: EEE-1HA470P; Manufacturer: Panasonic Electronic Components; TemperatureRange: -40C ~ 85C; Type: Automotive; Ripple Current: 130mA; Lifetime @ Temp: 2000 Hrs @ 85C; Value: 47uF; PartId: 7401; Supplier 1: Digi-Key; Supplier Part Number 1: PCE3927TR-ND; ComponentLink1Description: Datasheet; ComponentLink1URL: http://media.digikey.com/pdf/Data%20Sheets/Panasonic%20Electronic%20Components/S_Series_Type_V.pdf; ComponentLink2Description: Digi-Key listing; ComponentLink2URL: http://digikey.com/product-detail/en/EEE-1HA470P/PCE3927TR-ND/766094; Tolerance: 20%; Voltage: 50V; Price: 0.3144; Device Package: Radial, Can - SMD; Impedance: -
footprint CAP ALUM 10.3MM
pins: 1, 2

## EEE-1HA470UP
designator C?, comment 47uF
CAP ALUM 47UF 20% 50V SMD; Part Number: EEE-1HA470UP; Manufacturer: Panasonic Electronic Components; TemperatureRange: -40C ~ 85C; Type: Automotive; Ripple Current: 110mA; Lifetime @ Temp: 2000 Hrs @ 85C; Value: 47uF; PartId: 7339; Supplier 1: Digi-Key; Supplier Part Number 1: PCE3928TR-ND; ComponentLink1Description: Datasheet; ComponentLink1URL: http://media.digikey.com/pdf/Data%20Sheets/Panasonic%20Electronic%20Components/S_Series_Type_V.pdf; ComponentLink2Description: Digi-Key listing; ComponentLink2URL: http://digikey.com/product-detail/en/EEE-1HA470UP/PCE3928TR-ND/766095; Tolerance: 20%; Voltage: 50V; Price: 0.2682; Device Package: Radial, Can - SMD; Impedance: -
footprint CAP ALUM 8.3MM
pins: 1, 2

## EEE-1HA470XAP
designator C?, comment 47uF
CAP ALUM 47UF 20% 50V SMD; Part Number: EEE-1HA470XAP; Manufacturer: Panasonic Electronic Components; TemperatureRange: -40C ~ 85C; Type: High Temperature Reflow; Ripple Current: 105mA; Lifetime @ Temp: 2000 Hrs @ 85C; Value: 47uF; PartId: 7255; Supplier 1: Digi-Key; Supplier Part Number 1: PCE4622TR-ND; ComponentLink1Description: Datasheet; ComponentLink1URL: http://media.digikey.com/pdf/Data%20Sheets/Panasonic%20Electronic%20Components/S_Series_Type_V.pdf; ComponentLink2Description: Digi-Key listing; ComponentLink2URL: http://digikey.com/product-detail/en/EEE-1HA470XAP/PCE4622TR-ND/1717788; Tolerance: 20%; Voltage: 50V; Price: 0.1968; Device Package: Radial, Can - SMD; Impedance: -
footprint CAP ALUM 6.6MM
pins: 1, 2

## EEE-1JA101P
designator C?, comment 100uF
CAP ALUM 100UF 20% 63V SMD; Part Number: EEE-1JA101P; Manufacturer: Panasonic Electronic Components; TemperatureRange: -40C ~ 85C; Type: Automotive; Ripple Current: 60mA; Lifetime @ Temp: 2000 Hrs @ 85C; Value: 100uF; PartId: 7420; Supplier 1: Digi-Key; Supplier Part Number 1: PCE3942TR-ND; ComponentLink1Description: Datasheet; ComponentLink1URL: http://media.digikey.com/pdf/Data%20Sheets/Panasonic%20Electronic%20Components/S_Series_Type_V.pdf; ComponentLink2Description: Digi-Key listing; ComponentLink2URL: http://digikey.com/product-detail/en/EEE-1JA101P/PCE3942TR-ND/766109; Tolerance: 20%; Voltage: 63V; Price: 0.3451; Device Package: Radial, Can - SMD; Impedance: -
footprint CAP ALUM 10.3MM
pins: 1, 2

## EEE-1JA220UP
designator C?, comment 22uF
CAP ALUM 22UF 20% 63V SMD; Part Number: EEE-1JA220UP; Manufacturer: Panasonic Electronic Components; TemperatureRange: -40C ~ 85C; Type: Automotive; Ripple Current: 40mA; Lifetime @ Temp: 2000 Hrs @ 85C; Value: 22uF; PartId: 7319; Supplier 1: Digi-Key; Supplier Part Number 1: PCE3944TR-ND; ComponentLink1Description: Datasheet; ComponentLink1URL: http://media.digikey.com/pdf/Data%20Sheets/Panasonic%20Electronic%20Components/S_Series_Type_V.pdf; ComponentLink2Description: Digi-Key listing; ComponentLink2URL: http://digikey.com/product-detail/en/EEE-1JA220UP/PCE3944TR-ND/766111; Tolerance: 20%; Voltage: 63V; Price: 0.1953; Device Package: Radial, Can - SMD; Impedance: -
footprint CAP ALUM 8.3MM
pins: 1, 2

## EEE-1JA330P
designator C?, comment 33uF
CAP ALUM 33UF 20% 63V SMD; Part Number: EEE-1JA330P; Manufacturer: Panasonic Electronic Components; TemperatureRange: -40C ~ 85C; Type: Automotive; Ripple Current: 45mA; Lifetime @ Temp: 2000 Hrs @ 85C; Value: 33uF; PartId: 7347; Supplier 1: Digi-Key; Supplier Part Number 1: PCE3945TR-ND; ComponentLink1Description: Datasheet; ComponentLink1URL: http://media.digikey.com/pdf/Data%20Sheets/Panasonic%20Electronic%20Components/S_Series_Type_V.pdf; ComponentLink2Description: Digi-Key listing; ComponentLink2URL: http://digikey.com/product-detail/en/EEE-1JA330P/PCE3945TR-ND/766112; Tolerance: 20%; Voltage: 63V; Price: 0.3011; Device Package: Radial, Can - SMD; Impedance: -
footprint CAP ALUM 8.3MM
pins: 1, 2

## EEE-1JA470UP
designator C?, comment 47uF
CAP ALUM 47UF 20% 63V SMD; Part Number: EEE-1JA470UP; Manufacturer: Panasonic Electronic Components; TemperatureRange: -40C ~ 85C; Type: Automotive; Ripple Current: 45mA; Lifetime @ Temp: 2000 Hrs @ 85C; Value: 47uF; PartId: 7346; Supplier 1: Digi-Key; Supplier Part Number 1: PCE3946TR-ND; ComponentLink1Description: Datasheet; ComponentLink1URL: http://media.digikey.com/pdf/Data%20Sheets/Panasonic%20Electronic%20Components/S_Series_Type_V.pdf; ComponentLink2Description: Digi-Key listing; ComponentLink2URL: http://digikey.com/product-detail/en/EEE-1JA470UP/PCE3946TR-ND/766113; Tolerance: 20%; Voltage: 63V; Price: 0.3011; Device Package: Radial, Can - SMD; Impedance: -
footprint CAP ALUM 8.3MM
pins: 1, 2

## EEE-1VA101AP
designator C?, comment 100uF
CAP ALUM 100UF 20% 35V SMD; Part Number: EEE-1VA101AP; Manufacturer: Panasonic Electronic Components; TemperatureRange: -40C ~ 85C; Type: High Temperature Reflow; Ripple Current: 210mA; Lifetime @ Temp: 2000 Hrs @ 85C; Value: 100uF; PartId: 7426; Supplier 1: Digi-Key; Supplier Part Number 1: PCE4631TR-ND; ComponentLink1Description: Datasheet; ComponentLink1URL: http://media.digikey.com/pdf/Data%20Sheets/Panasonic%20Electronic%20Components/S_Series_Type_V.pdf; ComponentLink2Description: Digi-Key listing; ComponentLink2URL: http://digikey.com/product-detail/en/EEE-1VA101AP/PCE4631TR-ND/1717797; Tolerance: 20%; Voltage: 35V; Price: 0.3646; Device Package: Radial, Can - SMD; Impedance: -
footprint CAP ALUM 10.3MM
pins: 1, 2

## EEE-1VA101P
designator C?, comment 100uF
CAP ALUM 100UF 20% 35V SMD; Part Number: EEE-1VA101P; Manufacturer: Panasonic Electronic Components; TemperatureRange: -40C ~ 85C; Type: Automotive; Ripple Current: 210mA; Lifetime @ Temp: 2000 Hrs @ 85C; Value: 100uF; PartId: 7402; Supplier 1: Digi-Key; Supplier Part Number 1: PCE3949TR-ND; ComponentLink1Description: Datasheet; ComponentLink1URL: http://media.digikey.com/pdf/Data%20Sheets/Panasonic%20Electronic%20Components/S_Series_Type_V.pdf; ComponentLink2Description: Digi-Key listing; ComponentLink2URL: http://digikey.com/product-detail/en/EEE-1VA101P/PCE3949TR-ND/766115; Tolerance: 20%; Voltage: 35V; Price: 0.3207; Device Package: Radial, Can - SMD; Impedance: -
footprint CAP ALUM 10.3MM
pins: 1, 2

## EEE-1VA101UP
designator C?, comment 100uF
CAP ALUM 100UF 20% 35V SMD; Part Number: EEE-1VA101UP; Manufacturer: Panasonic Electronic Components; TemperatureRange: -40C ~ 85C; Type: Automotive; Ripple Current: 140mA; Lifetime @ Temp: 2000 Hrs @ 85C; Value: 100uF; PartId: 7336; Supplier 1: Digi-Key; Supplier Part Number 1: PCE3950TR-ND; ComponentLink1Description: Datasheet; ComponentLink1URL: http://media.digikey.com/pdf/Data%20Sheets/Panasonic%20Electronic%20Components/S_Series_Type_V.pdf; ComponentLink2Description: Digi-Key listing; ComponentLink2URL: http://digikey.com/product-detail/en/EEE-1VA101UP/PCE3950TR-ND/766116; Tolerance: 20%; Voltage: 35V; Price: 0.2682; Device Package: Radial, Can - SMD; Impedance: -
footprint CAP ALUM 8.3MM
pins: 1, 2